# EAGLE library part CHARGER_CONTROL_BOARD (library FSAE Electric (Alexander Ray's conflicted copy 2016-04-02))
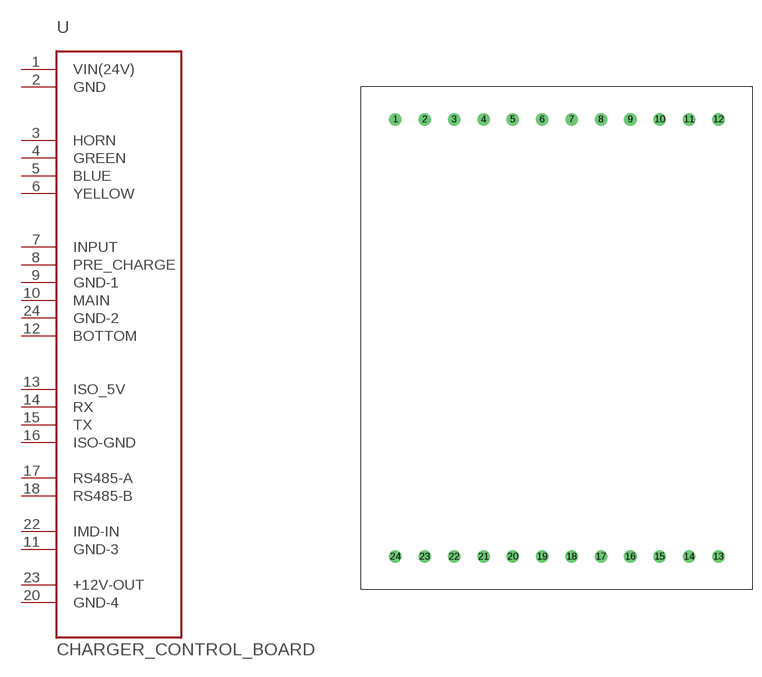
[diagram p100: symbol with the pads of DMB-4772-A; footprint DMB-4772-A]

Designator prefix -

## CHARGER_CONTROL_BOARD  [DMB-4772-A]
1  VIN(24V)
2  GND
3  HORN
4  GREEN
5  BLUE
6  YELLOW
7  INPUT
8  PRE_CHARGE
9  GND-1
10  MAIN
11  GND-3
12  BOTTOM
13  ISO_5V
14  RX
15  TX
16  ISO-GND
17  RS485-A
18  RS485-B
20  GND-4
22  IMD-IN
23  +12V-OUT
24  GND-2

## Footprint DMB-4772-A (pad centres in mm)
drill 1.45: 1 -27.94,37.8; 2 -22.86,37.8; 3 -17.78,37.8; 4 -12.7,37.8; 5 -7.62,37.8; 6 -2.54,37.8; 7 2.54,37.8; 8 7.62,37.8; 9 12.7,37.8; 10 17.78,37.8; 11 22.86,37.8; 12 27.94,37.8; 13 27.94,-37.8; 14 22.86,-37.8; 15 17.78,-37.8; 16 12.7,-37.8; 17 7.62,-37.8; 18 2.54,-37.8; 19 -2.54,-37.8; 20 -7.62,-37.8; 21 -12.7,-37.8; 22 -17.78,-37.8; 23 -22.86,-37.8; 24 -27.94,-37.8